# EAGLE library part BMM150 (library bosch-bmm150)
The BMM150 is a standalone geomagnetic sensor for consumer market applications. It allows measurements of the magnetic field in three perpendicular axes. Based on Bosch’s proprietary FlipCore technology, performance and features of BMM150 are carefully tuned and perfectly match the demanding requirements of all 3-axis mobile applications such as electronic compass, navigation or augmented reality. he library has been designed by Richard Magdycz <https://www.facebook.com/groups/eaglecadsoftUK>
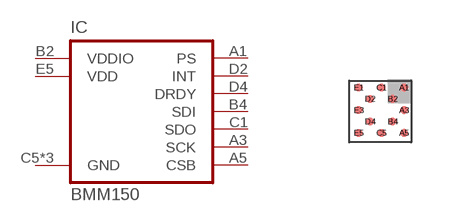
[diagram p0: symbol with the pads of WLCSP12-1.56X1.56; footprint WLCSP12-1.56X1.56]

Designator prefix IC

## BMM150  [WLCSP12-1.56X1.56]
A1  PS
A3  SCK  in
A5  CSB  in
B2  VDDIO  pwr
B4  SDI
C1  SDO  out
C5  GND  pwr
D2  INT  out
D4  DRDY  in
E1  GND  pwr
E3  GND  pwr
E5  VDD  pwr

## Footprint WLCSP12-1.56X1.56 (pad centres in mm)
Wafer Level Chip Scale Package (12 pins, 0.4mm diagonal ball pitch) footprint 1.56 x 1.56 mm2, height 0.6 mm
smd 0.2 x 0.2: A1 0.6,0.6; A3 0.6,0.034; A5 0.6,-0.532; B2 0.317,0.317; B4 0.317,-0.249; C1 0.034,0.6; C5 0.034,-0.532; D2 -0.249,0.317; D4 -0.249,-0.249; E1 -0.532,0.6; E3 -0.532,0.034; E5 -0.532,-0.532